# Altium integrated library NSC Analog.IntLib: 143 symbols (part 3 of 4)
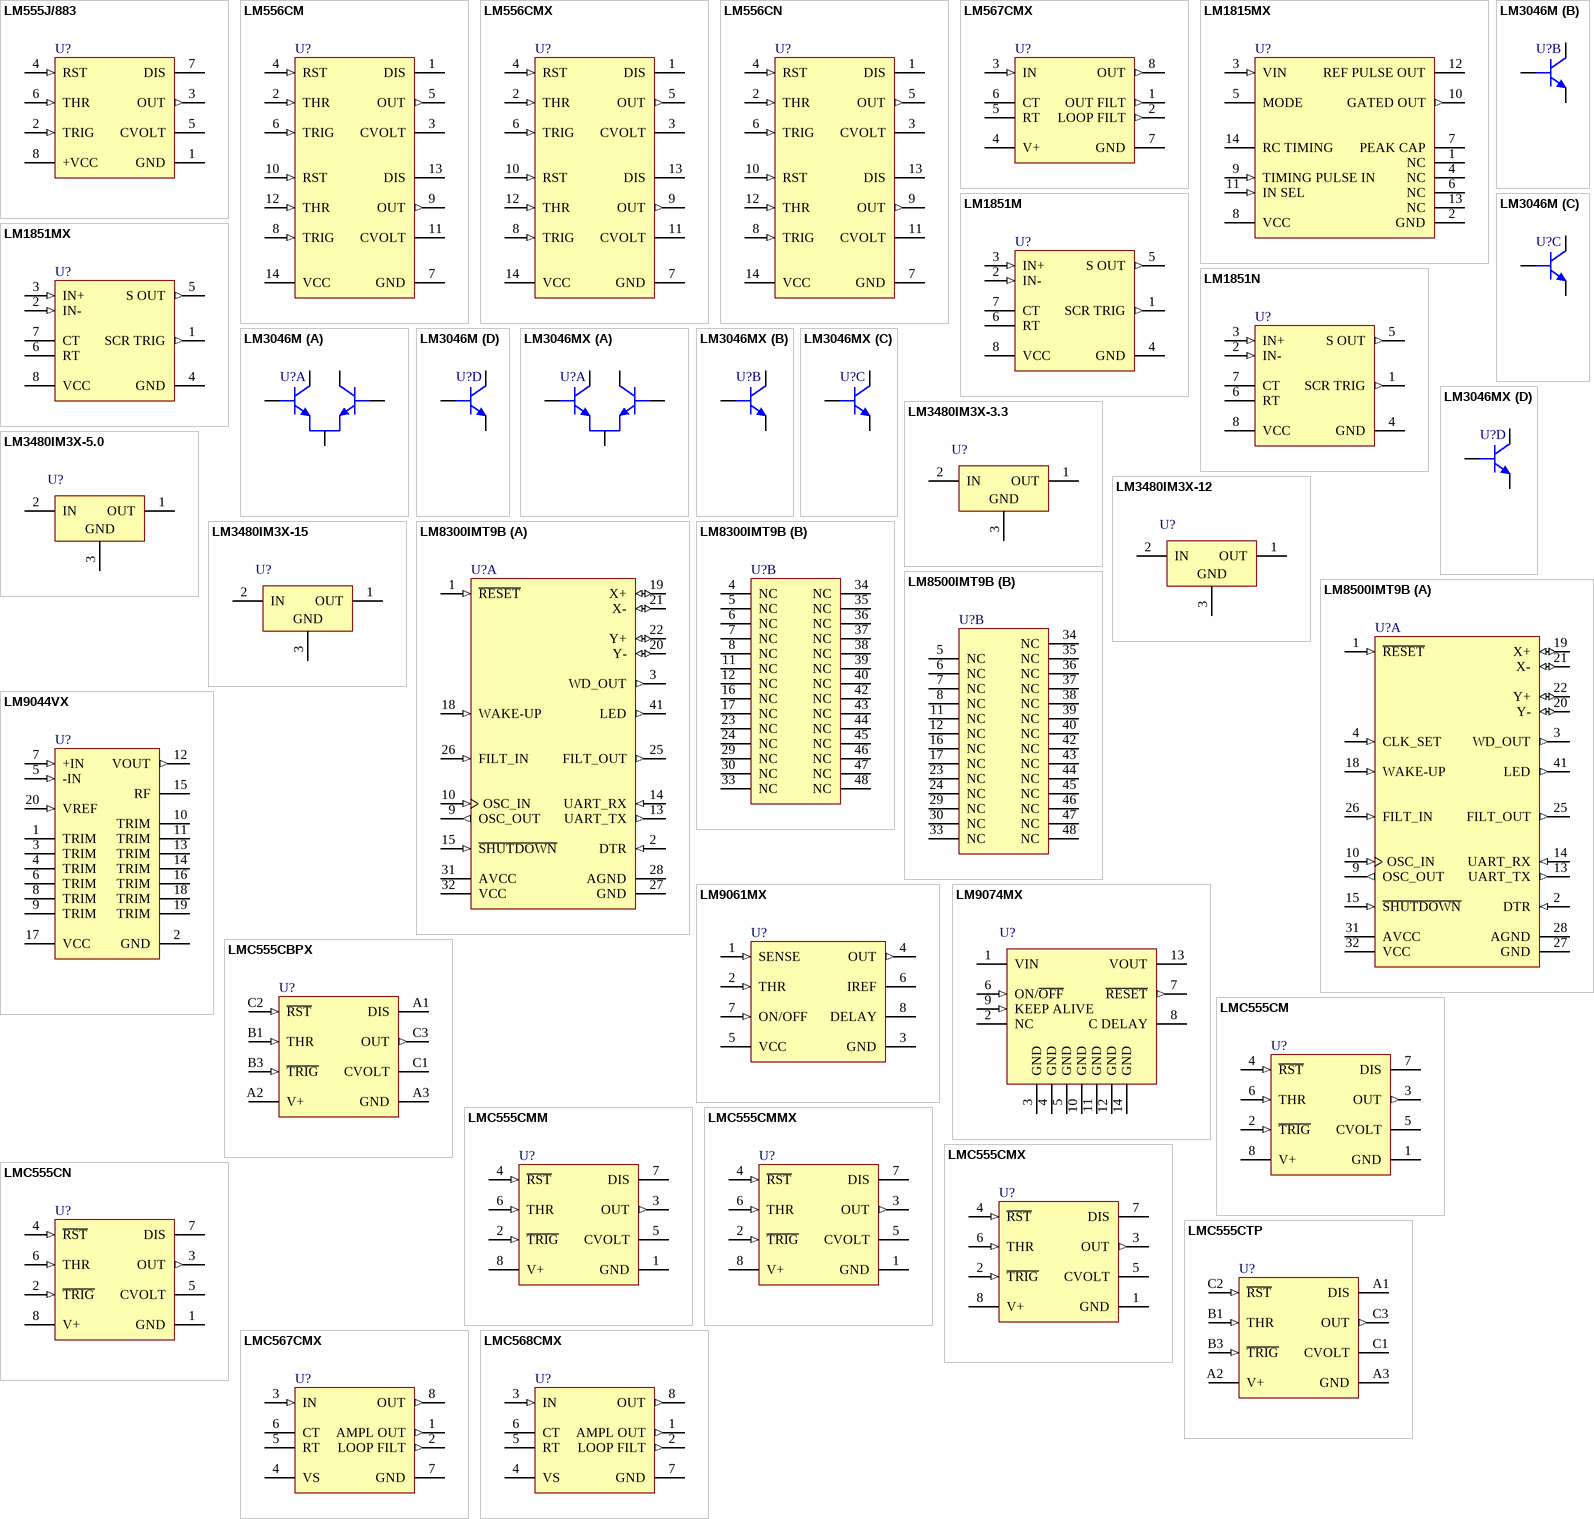
[diagram p9: symbols LM555J/883 to LMC568CMX]

## LM3480IM3X-3.3
designator U?
100 mA, SOT-23, Quasi Low-Dropout Linear Voltage Regulator; PartNumber: LM3480IM3X-3.3; Manufacturer: National Semiconductor; CompType: Analog IC; PackageTopMarking: L0A*XTT; Published: 4-Dec-2008; DatasheetVersion: Mar-2005; PackageVersion: revB, Mar-2003; PackageReference: MF03A; Publisher: Altium Limited; PackageDescription: Molded SOT-23, .115 x .051 x .037in Body, 3 Lead, .075 in Pitch; PinCount: 3; DigiKeyPartNumber: LM3480IM3-3.3CT-ND; ComponentLink1Description: LM3480 Datasheet; ComponentLink1URL: http://www.national.com/ds.cgi/LM/LM3480.pdf; ComponentLink2Description: LM3480 Web Page; ComponentLink2URL: http://www.national.com/pf/LM/LM3480.html; ComponentLink3Description: MF03A package page; ComponentLink3URL: http://www.national.com/packaging/folders/mf03a.html
footprint MF03A_N (SOT23, 3-Leads, Body 2.9x1.3mm, Pitch 0.95mm, Lead Span 2.4mm, IPC Medium Density)
footprint MF03A_L (SOT23, 3-Leads, Body 2.9x1.3mm, Pitch 0.95mm, Lead Span 2.4mm, IPC High Density)
footprint MF03A_M (SOT23, 3-Leads, Body 2.9x1.3mm, Pitch 0.95mm, Lead Span 2.4mm, IPC Low Density)
pins: 1 OUT (power), 2 IN (power), 3 GND (power)

## LM3480IM3X-5.0
designator U?
100 mA, SOT-23, Quasi Low-Dropout Linear Voltage Regulator; PartNumber: LM3480IM3X-5.0; Manufacturer: National Semiconductor; CompType: Analog IC; PackageTopMarking: L0B*XTT; Published: 4-Dec-2008; DatasheetVersion: Mar-2005; PackageVersion: revB, Mar-2003; PackageReference: MF03A; Publisher: Altium Limited; PackageDescription: Molded SOT-23, .115 x .051 x .037in Body, 3 Lead, .075 in Pitch; PinCount: 3; DigiKeyPartNumber: LM3480IM3-5.0CT-ND; ComponentLink1Description: LM3480 Datasheet; ComponentLink1URL: http://www.national.com/ds.cgi/LM/LM3480.pdf; ComponentLink2Description: LM3480 Web Page; ComponentLink2URL: http://www.national.com/pf/LM/LM3480.html; ComponentLink3Description: MF03A package page; ComponentLink3URL: http://www.national.com/packaging/folders/mf03a.html
footprint MF03A_N (SOT23, 3-Leads, Body 2.9x1.3mm, Pitch 0.95mm, Lead Span 2.4mm, IPC Medium Density)
footprint MF03A_L (SOT23, 3-Leads, Body 2.9x1.3mm, Pitch 0.95mm, Lead Span 2.4mm, IPC High Density)
footprint MF03A_M (SOT23, 3-Leads, Body 2.9x1.3mm, Pitch 0.95mm, Lead Span 2.4mm, IPC Low Density)
pins: 1 OUT (power), 2 IN (power), 3 GND (power)

## LM3480IM3X-12
designator U?
100 mA, SOT-23, Quasi Low-Dropout Linear Voltage Regulator; PartNumber: LM3480IM3X-12; Manufacturer: National Semiconductor; CompType: Analog IC; PackageTopMarking: L0C*XTT; Published: 4-Dec-2008; DatasheetVersion: Mar-2005; PackageVersion: revB, Mar-2003; PackageReference: MF03A; Publisher: Altium Limited; PackageDescription: Molded SOT-23, .115 x .051 x .037in Body, 3 Lead, .075 in Pitch; PinCount: 3; DigiKeyPartNumber: LM3480IM3X-12CT-ND; ComponentLink1Description: LM3480 Datasheet; ComponentLink1URL: http://www.national.com/ds.cgi/LM/LM3480.pdf; ComponentLink2Description: LM3480 Web Page; ComponentLink2URL: http://www.national.com/pf/LM/LM3480.html; ComponentLink3Description: MF03A package page; ComponentLink3URL: http://www.national.com/packaging/folders/mf03a.html
footprint MF03A_N (SOT23, 3-Leads, Body 2.9x1.3mm, Pitch 0.95mm, Lead Span 2.4mm, IPC Medium Density)
footprint MF03A_L (SOT23, 3-Leads, Body 2.9x1.3mm, Pitch 0.95mm, Lead Span 2.4mm, IPC High Density)
footprint MF03A_M (SOT23, 3-Leads, Body 2.9x1.3mm, Pitch 0.95mm, Lead Span 2.4mm, IPC Low Density)
pins: 1 OUT (power), 2 IN (power), 3 GND (power)

## LM3480IM3X-15
designator U?
100 mA, SOT-23, Quasi Low-Dropout Linear Voltage Regulator; PartNumber: LM3480IM3X-15; Manufacturer: National Semiconductor; CompType: Analog IC; PackageTopMarking: L0D*XTT; Published: 4-Dec-2008; DatasheetVersion: Mar-2005; PackageVersion: revB, Mar-2003; PackageReference: MF03A; Publisher: Altium Limited; PackageDescription: Molded SOT-23, .115 x .051 x .037in Body, 3 Lead, .075 in Pitch; PinCount: 3; DigiKeyPartNumber: LM3480IM3-15CT-ND; ComponentLink1Description: LM3480 Datasheet; ComponentLink1URL: http://www.national.com/ds.cgi/LM/LM3480.pdf; ComponentLink2Description: LM3480 Web Page; ComponentLink2URL: http://www.national.com/pf/LM/LM3480.html; ComponentLink3Description: MF03A package page; ComponentLink3URL: http://www.national.com/packaging/folders/mf03a.html
footprint MF03A_N (SOT23, 3-Leads, Body 2.9x1.3mm, Pitch 0.95mm, Lead Span 2.4mm, IPC Medium Density)
footprint MF03A_L (SOT23, 3-Leads, Body 2.9x1.3mm, Pitch 0.95mm, Lead Span 2.4mm, IPC High Density)
footprint MF03A_M (SOT23, 3-Leads, Body 2.9x1.3mm, Pitch 0.95mm, Lead Span 2.4mm, IPC Low Density)
pins: 1 OUT (power), 2 IN (power), 3 GND (power)

## LM8300IMT9B
designator U?
Four Wire Resistive Touchscreen Controller with Brownout; PartNumber: LM8300IMT9B; Manufacturer: National Semiconductor; CompType: Analog IC; PackageTopMarking: NS2ZXYTT*LM8300IMT9; PowerWise: N; Published: 4-Dec-2008; DatasheetVersion: Dec-2003; PackageVersion: revE, Apr-2003; PackageReference: MTD48; Publisher: Altium Limited; PackageDescription: Molded TSSOP, Jedec, 12.5 x 6.1 x 0.9mm Body, 48 Lead, 0.50mm Pitch; PinCount: 48; DigiKeyPartNumber: LM8300IMT9B-ND; Code_JEDEC: MO-153-ED; ComponentLink1Description: LM8300 Datasheet; ComponentLink1URL: http://www.national.com/ds.cgi/LM/LM8300.pdf; ComponentLink2Description: LM8300 Web Page; ComponentLink2URL: http://www.national.com/pf/LM/LM8300.html; ComponentLink3Description: MTD48 package page; ComponentLink3URL: http://www.national.com/packaging/folders/mtd48.html
footprint MTD48_N (TSSOP, 48-Leads, Body 12.5x6.1mm, Pitch 0.5mm, IPC Medium Density)
footprint MTD48_L (TSSOP, 48-Leads, Body 12.5x6.1mm, Pitch 0.5mm, IPC High Density)
footprint MTD48_M (TSSOP, 48-Leads, Body 12.5x6.1mm, Pitch 0.5mm, IPC Low Density)
part A pins: 1 ~{RESET} (in), 2 DTR (in), 3 WD_OUT (out), 9 OSC_OUT (out), 10 OSC_IN (in), 13 UART_TX (out), 14 UART_RX (in), 15 ~{SHUTDOWN} (in), 18 WAKE-UP (in), 19 X+ (io), 20 Y- (io), 21 X- (io), 22 Y+ (io), 25 FILT_OUT (out), 26 FILT_IN (in), 27 GND (power), 28 AGND (power), 31 AVCC (power), 32 VCC (power), 41 LED (out)
part B pins: 4 NC, 5 NC, 6 NC, 7 NC, 8 NC, 11 NC, 12 NC, 16 NC, 17 NC, 23 NC, 24 NC, 29 NC, 30 NC, 33 NC, 34 NC, 35 NC, 36 NC, 37 NC, 38 NC, 39 NC, 40 NC, 42 NC, 43 NC, 44 NC, 45 NC, 46 NC, 47 NC, 48 NC

## LM8500IMT9B
designator U?
Four Wire Resistive Touchscreen Controller with Brownout; PartNumber: LM8500IMT9B; Manufacturer: National Semiconductor; CompType: Analog IC; PackageTopMarking: NS2ZXYTT*LM8500IMT9; PowerWise: N; Published: 4-Dec-2008; DatasheetVersion: Dec-2003; PackageVersion: revE, Apr-2003; PackageReference: MTD48; Publisher: Altium Limited; PackageDescription: Molded TSSOP, Jedec, 12.5 x 6.1 x 0.9mm Body, 48 Lead, 0.50mm Pitch; PinCount: 48; DigiKeyPartNumber: LM8500IMT9B-ND; Code_JEDEC: MO-153-ED; ComponentLink1Description: LM8500 Datasheet; ComponentLink1URL: http://www.national.com/ds.cgi/LM/LM8500.pdf; ComponentLink2Description: LM8500 Web Page; ComponentLink2URL: http://www.national.com/pf/LM/LM8500.html; ComponentLink3Description: MTD48 package page; ComponentLink3URL: http://www.national.com/packaging/folders/mtd48.html
footprint MTD48_N (TSSOP, 48-Leads, Body 12.5x6.1mm, Pitch 0.5mm, IPC Medium Density)
footprint MTD48_L (TSSOP, 48-Leads, Body 12.5x6.1mm, Pitch 0.5mm, IPC High Density)
footprint MTD48_M (TSSOP, 48-Leads, Body 12.5x6.1mm, Pitch 0.5mm, IPC Low Density)
part A pins: 1 ~{RESET} (in), 2 DTR (in), 3 WD_OUT (out), 4 CLK_SET (in), 9 OSC_OUT (out), 10 OSC_IN (in), 13 UART_TX (out), 14 UART_RX (in), 15 ~{SHUTDOWN} (in), 18 WAKE-UP (in), 19 X+ (io), 20 Y- (io), 21 X- (io), 22 Y+ (io), 25 FILT_OUT (out), 26 FILT_IN (in), 27 GND (power), 28 AGND (power), 31 AVCC (power), 32 VCC (power), 41 LED (out)
part B pins: 5 NC, 6 NC, 7 NC, 8 NC, 11 NC, 12 NC, 16 NC, 17 NC, 23 NC, 24 NC, 29 NC, 30 NC, 33 NC, 34 NC, 35 NC, 36 NC, 37 NC, 38 NC, 39 NC, 40 NC, 42 NC, 43 NC, 44 NC, 45 NC, 46 NC, 47 NC, 48 NC

## LM9044VX
designator U?
Lambda Sensor Interface Amplifier; PartNumber: LM9044VX; Manufacturer: National Semiconductor; CompType: Analog IC; PackageTopMarking: NSUZXYTT*LM9044V; Published: 4-Dec-2008; DatasheetVersion: Nov-2001; PackageVersion: revL, Dec-1993; PackageReference: V20A; Publisher: Altium Limited; PackageDescription: Plastic Chip Carrier, Sq., .050in Pitch, 20 Lead; PinCount: 20; DigiKeyPartNumber: LM9044VX-ND; Code_JEDEC: MO-047-AA; Code_IPC: PLCC-20; ComponentLink1Description: LM9044 Datasheet; ComponentLink1URL: http://www.national.com/ds.cgi/LM/LM9044.pdf; ComponentLink2Description: LM9044 Web Page; ComponentLink2URL: http://www.national.com/pf/LM/LM9044.html; ComponentLink3Description: V20A package page; ComponentLink3URL: http://www.national.com/packaging/folders/v20a.html
footprint V20A_N (Leaded Chip Carrier, 20-Leads, Body 9x9mm, Pitch 1.27mm, IPC Medium Density)
footprint V20A_L (Leaded Chip Carrier, 20-Leads, Body 9x9mm, Pitch 1.27mm, IPC High Density)
footprint V20A_M (Leaded Chip Carrier, 20-Leads, Body 9x9mm, Pitch 1.27mm, IPC Low Density)
pins: 1 TRIM, 2 GND (power), 3 TRIM, 4 TRIM, 5 -IN (in), 6 TRIM, 7 +IN (in), 8 TRIM, 9 TRIM, 10 TRIM, 11 TRIM, 12 VOUT (out), 13 TRIM, 14 TRIM, 15 RF, 16 TRIM, 17 VCC (power), 18 TRIM, 19 TRIM, 20 VREF (in)

## LM9061MX
designator U?
Power MOSFET Driver with Lossless Protection; PartNumber: LM9061MX; Manufacturer: National Semiconductor; CompType: Analog IC; PackageTopMarking: NSZXTT*LM90*61M; Published: 4-Dec-2008; DatasheetVersion: Aug-2006; PackageVersion: revL, Sep-2006; PackageReference: M08A; Publisher: Altium Limited; PackageDescription: SOIC Narrow, 4.9 x 3.9 x 1.45mm, 8 Lead, 1.27mm Pitch; PinCount: 8; DigiKeyPartNumber: LM9061MX-ND; Code_JEDEC: MS-012-AA; Code_IPC: SOIC127P600-8; ComponentLink1Description: LM9061 Datasheet; ComponentLink1URL: http://www.national.com/ds.cgi/LM/LM9061.pdf; ComponentLink2Description: LM9061 Web Page; ComponentLink2URL: http://www.national.com/pf/LM/LM9061.html; ComponentLink3Description: M08A package page; ComponentLink3URL: http://www.national.com/packaging/folders/m08a.html
footprint M08A_N (SOIC, 8-Leads, Body 4.9x3.9mm, Pitch 1.27mm, IPC Medium Density)
footprint M08A_L (SOIC, 8-Leads, Body 4.9x3.9mm, Pitch 1.27mm, IPC High Density)
footprint M08A_M (SOIC, 8-Leads, Body 4.9x3.9mm, Pitch 1.27mm, IPC Low Density)
pins: 1 SENSE (in), 2 THR (in), 3 GND (power), 4 OUT (out), 5 VCC (power), 6 IREF, 7 ON/OFF (in), 8 DELAY

## LM9074MX
designator U?
System Voltage Regulator with Keep-Alive ON/OFF Control; PartNumber: LM9074MX; Manufacturer: National Semiconductor; CompType: Analog IC; PackageTopMarking: NSUZXYTT*LM9074M; Published: 4-Dec-2008; DatasheetVersion: Nov-2005; PackageVersion: revJ, Jan-1996; PackageReference: M14A; Publisher: Altium Limited; PackageDescription: Molded Package S.O., .150in Wide, 14 Lead; PinCount: 14; DigiKeyPartNumber: LM9074MX-ND; Code_JEDEC: MS-012AB; Code_IPC: SOIC127P600-14; ComponentLink1Description: LM9074 Datasheet; ComponentLink1URL: http://www.national.com/ds.cgi/LM/LM9074.pdf; ComponentLink2Description: LM9074 Web Page; ComponentLink2URL: http://www.national.com/pf/LM/LM9074.html; ComponentLink3Description: M14A package page; ComponentLink3URL: http://www.national.com/packaging/folders/m14a.html
footprint M14A_N (SOIC, 14-Leads, Body 8.6x3.9mm, Pitch 1.27mm, IPC Medium Density)
footprint M14A_L (SOIC, 14-Leads, Body 8.6x3.9mm, Pitch 1.27mm, IPC High Density)
footprint M14A_M (SOIC, 14-Leads, Body 8.6x3.9mm, Pitch 1.27mm, IPC Low Density)
pins: 1 VIN (power), 2 NC, 3 GND (power), 4 GND (power), 5 GND (power), 6 ON/~{OFF} (in), 7 ~{RESET} (out), 8 C DELAY, 9 KEEP ALIVE (in), 10 GND (power), 11 GND (power), 12 GND (power), 13 VOUT (power), 14 GND (power)

## LMC555CBPX
designator U?
CMOS Timer; PartNumber: LMC555CBPX; Manufacturer: National Semiconductor; CompType: Analog IC; PackageTopMarking: XVF*I 1; Published: 4-Dec-2008; DatasheetVersion: May-2006; PackageVersion: revC, Feb-2002; PackageReference: BPA08EFB; Publisher: Altium Limited; PackageDescription: Micro SMD, 8 Bump, 0.5mm Pitch; PinCount: 8; DigiKeyPartNumber: LMC555CBPX-ND; Code_JEDEC: MO-211-BC; ComponentLink1Description: LMC555 Datasheet; ComponentLink1URL: http://www.national.com/ds.cgi/LM/LMC555.pdf; ComponentLink2Description: LMC555 Web Page; ComponentLink2URL: http://www.national.com/pf/LM/LMC555.html; ComponentLink3Description: BPA08EFB package page; ComponentLink3URL: http://www.national.com/packaging/folders/bpa08efb.html
footprint BPA08EFB (Micro SMD, 8-Leads, Body 1.41x1.39mm, Pitch 0.5mm, NSC Recommended)
pins: A1 DIS (oc), A2 V+ (power), A3 GND (power), B1 THR (in), B3 ~{TRIG} (in), C1 CVOLT, C2 ~{RST} (in), C3 OUT (out)

## LMC555CM
designator U?
CMOS Timer; PartNumber: LMC555CM; Manufacturer: National Semiconductor; CompType: Analog IC; PackageTopMarking: NSZXTT*LMC*555CM; PowerWise: N; Published: 4-Dec-2008; DatasheetVersion: May-2006; PackageVersion: revL, Sep-2006; PackageReference: M08A; Publisher: Altium Limited; PackageDescription: SOIC Narrow, 4.9 x 3.9 x 1.45mm, 8 Lead, 1.27mm Pitch; PinCount: 8; DigiKeyPartNumber: LMC555CM-ND; Code_JEDEC: MS-012-AA; Code_IPC: SOIC127P600-8; ComponentLink1Description: LMC555 Datasheet; ComponentLink1URL: http://www.national.com/ds.cgi/LM/LMC555.pdf; ComponentLink2Description: LMC555 Web Page; ComponentLink2URL: http://www.national.com/pf/LM/LMC555.html; ComponentLink3Description: M08A package page; ComponentLink3URL: http://www.national.com/packaging/folders/m08a.html
footprint M08A_N (SOIC, 8-Leads, Body 4.9x3.9mm, Pitch 1.27mm, IPC Medium Density)
footprint M08A_L (SOIC, 8-Leads, Body 4.9x3.9mm, Pitch 1.27mm, IPC High Density)
footprint M08A_M (SOIC, 8-Leads, Body 4.9x3.9mm, Pitch 1.27mm, IPC Low Density)
pins: 1 GND (power), 2 ~{TRIG} (in), 3 OUT (out), 4 ~{RST} (in), 5 CVOLT, 6 THR (in), 7 DIS (oc), 8 V+ (power)

## LMC555CMM
designator U?
CMOS Timer; PartNumber: LMC555CMM; Manufacturer: National Semiconductor; CompType: Analog IC; PackageTopMarking: ZXTT*ZC5; PowerWise: N; Published: 4-Dec-2008; DatasheetVersion: May-2006; PackageVersion: revF, Apr-2008; PackageReference: MUA08A; Publisher: Altium Limited; PackageDescription: MINI SOIC, .118 x .118 x .034in, 8 Lead, .0256in Pitch; PinCount: 8; DigiKeyPartNumber: LMC555CMMCT-ND; Code_JEDEC: MO-187-AA; ComponentLink1Description: LMC555 Datasheet; ComponentLink1URL: http://www.national.com/ds.cgi/LM/LMC555.pdf; ComponentLink2Description: LMC555 Web Page; ComponentLink2URL: http://www.national.com/pf/LM/LMC555.html; ComponentLink3Description: MUA08A package page; ComponentLink3URL: http://www.national.com/packaging/folders/mua08a.html
footprint MUA08A_N (TSOP, 8-Leads, Body 3x3mm, Pitch 0.65mm, IPC Medium Density)
footprint MUA08A_L (TSOP, 8-Leads, Body 3x3mm, Pitch 0.65mm, IPC High Density)
footprint MUA08A_M (TSOP, 8-Leads, Body 3x3mm, Pitch 0.65mm, IPC Low Density)
pins: 1 GND (power), 2 ~{TRIG} (in), 3 OUT (out), 4 ~{RST} (in), 5 CVOLT, 6 THR (in), 7 DIS (oc), 8 V+ (power)

## LMC555CMMX
designator U?
CMOS Timer; PartNumber: LMC555CMMX; Manufacturer: National Semiconductor; CompType: Analog IC; PackageTopMarking: ZXTT*ZC5; Published: 4-Dec-2008; DatasheetVersion: May-2006; PackageVersion: revF, Apr-2008; PackageReference: MUA08A; Publisher: Altium Limited; PackageDescription: MINI SOIC, .118 x .118 x .034in, 8 Lead, .0256in Pitch; PinCount: 8; DigiKeyPartNumber: LMC555CMMX-ND; Code_JEDEC: MO-187-AA; ComponentLink1Description: LMC555 Datasheet; ComponentLink1URL: http://www.national.com/ds.cgi/LM/LMC555.pdf; ComponentLink2Description: LMC555 Web Page; ComponentLink2URL: http://www.national.com/pf/LM/LMC555.html; ComponentLink3Description: MUA08A package page; ComponentLink3URL: http://www.national.com/packaging/folders/mua08a.html
footprint MUA08A_N (TSOP, 8-Leads, Body 3x3mm, Pitch 0.65mm, IPC Medium Density)
footprint MUA08A_L (TSOP, 8-Leads, Body 3x3mm, Pitch 0.65mm, IPC High Density)
footprint MUA08A_M (TSOP, 8-Leads, Body 3x3mm, Pitch 0.65mm, IPC Low Density)
pins: 1 GND (power), 2 ~{TRIG} (in), 3 OUT (out), 4 ~{RST} (in), 5 CVOLT, 6 THR (in), 7 DIS (oc), 8 V+ (power)

## LMC555CMX
designator U?
CMOS Timer; PartNumber: LMC555CMX; Manufacturer: National Semiconductor; CompType: Analog IC; PackageTopMarking: NSZXTT*LMC*555CM; Published: 4-Dec-2008; DatasheetVersion: May-2006; PackageVersion: revL, Sep-2006; PackageReference: M08A; Publisher: Altium Limited; PackageDescription: SOIC Narrow, 4.9 x 3.9 x 1.45mm, 8 Lead, 1.27mm Pitch; PinCount: 8; DigiKeyPartNumber: LMC555CMXCT-ND; Code_JEDEC: MS-012-AA; Code_IPC: SOIC127P600-8; ComponentLink1Description: LMC555 Datasheet; ComponentLink1URL: http://www.national.com/ds.cgi/LM/LMC555.pdf; ComponentLink2Description: LMC555 Web Page; ComponentLink2URL: http://www.national.com/pf/LM/LMC555.html; ComponentLink3Description: M08A package page; ComponentLink3URL: http://www.national.com/packaging/folders/m08a.html
footprint M08A_N (SOIC, 8-Leads, Body 4.9x3.9mm, Pitch 1.27mm, IPC Medium Density)
footprint M08A_L (SOIC, 8-Leads, Body 4.9x3.9mm, Pitch 1.27mm, IPC High Density)
footprint M08A_M (SOIC, 8-Leads, Body 4.9x3.9mm, Pitch 1.27mm, IPC Low Density)
pins: 1 GND (power), 2 ~{TRIG} (in), 3 OUT (out), 4 ~{RST} (in), 5 CVOLT, 6 THR (in), 7 DIS (oc), 8 V+ (power)

## LMC555CN
designator U?
CMOS Timer; PartNumber: LMC555CN; Manufacturer: National Semiconductor; CompType: Analog IC; PackageTopMarking: NSUZXYTT*LMC*555CN; PowerWise: N; Published: 4-Dec-2008; DatasheetVersion: May-2006; PackageVersion: revG, May-2006; PackageReference: N08E; Publisher: Altium Limited; PackageDescription: MDIP, .365 x .250 x .130in, 8 Lead, .100in Pitch; PinCount: 8; DigiKeyPartNumber: LMC555CN-ND; Code_JEDEC: MS-001-BA; ComponentLink1Description: LMC555 Datasheet; ComponentLink1URL: http://www.national.com/ds.cgi/LM/LMC555.pdf; ComponentLink2Description: LMC555 Web Page; ComponentLink2URL: http://www.national.com/pf/LM/LMC555.html; ComponentLink3Description: N08E package page; ComponentLink3URL: http://www.national.com/packaging/folders/n08e.html
footprint N08E (DIP, 8-Leads, Row Spacing 7.62mm, Pitch 2.54mm, Body 9.91x6.35mm)
pins: 1 GND (power), 2 ~{TRIG} (in), 3 OUT (out), 4 ~{RST} (in), 5 CVOLT, 6 THR (in), 7 DIS (oc), 8 V+ (power)

## LMC555CTP
designator U?
CMOS Timer; PartNumber: LMC555CTP; Manufacturer: National Semiconductor; CompType: Analog IC; PackageTopMarking: XVF*I 02; PowerWise: N; Published: 29-May-2009; DatasheetVersion: May-2006; PackageVersion: revA, Mar-2002; PackageReference: TPA08FGA; Publisher: Altium Limited; PackageDescription: Thin Micro SMD, 8 Bump, 0.5mm Pitch; RoHS: Y; PinCount: 8; DigiKeyPartNumber: LMC555CTP-ND; Code_JEDEC: MO-211-BC; ComponentLink1Description: LMC555 Datasheet; ComponentLink1URL: http://www.national.com/ds/LM/LMC555.pdf; ComponentLink2Description: LMC555 Web Page; ComponentLink2URL: http://www.national.com/pf/LM/LMC555.html; ComponentLink3Description: TPA08FGA Package Page; ComponentLink3URL: http://www.national.com/packaging/folders/tpa08fga.html
footprint TPA08FGA (Micro SMD, 8-Leads, Body 1.44x1.41mm, Pitch 0.5mm, NSC Recommended)
pins: A1 DIS (oc), A2 V+ (power), A3 GND (power), B1 THR (in), B3 ~{TRIG} (in), C1 CVOLT, C2 ~{RST} (in), C3 OUT (out)

## LMC567CMX
designator U?
Low Power Tone Decoder; PartNumber: LMC567CMX; Manufacturer: National Semiconductor; CompType: Analog IC; PackageTopMarking: NSZXTT*LMC*567CM; Published: 4-Dec-2008; DatasheetVersion: Jun-1999; PackageVersion: revL, Sep-2006; PackageReference: M08A; Publisher: Altium Limited; PackageDescription: SOIC Narrow, 4.9 x 3.9 x 1.45mm, 8 Lead, 1.27mm Pitch; PinCount: 8; DigiKeyPartNumber: LMC567CMXTR-ND; Code_JEDEC: MS-012-AA; Code_IPC: SOIC127P600-8; ComponentLink1Description: LMC567 Datasheet; ComponentLink1URL: http://www.national.com/ds.cgi/LM/LMC567.pdf; ComponentLink2Description: LMC567 Web Page; ComponentLink2URL: http://www.national.com/pf/LM/LMC567.html; ComponentLink3Description: M08A package page; ComponentLink3URL: http://www.national.com/packaging/folders/m08a.html
footprint M08A_N (SOIC, 8-Leads, Body 4.9x3.9mm, Pitch 1.27mm, IPC Medium Density)
footprint M08A_L (SOIC, 8-Leads, Body 4.9x3.9mm, Pitch 1.27mm, IPC High Density)
footprint M08A_M (SOIC, 8-Leads, Body 4.9x3.9mm, Pitch 1.27mm, IPC Low Density)
pins: 1 AMPL OUT (out), 2 LOOP FILT (out), 3 IN (in), 4 VS (power), 5 RT, 6 CT, 7 GND (power), 8 OUT (out)

## LMC568CMX
designator U?
Low Power Phase-Locked Loop; PartNumber: LMC568CMX; Manufacturer: National Semiconductor; CompType: Analog IC; PackageTopMarking: NSZXTT*LMC*568CM; Published: 4-Dec-2008; DatasheetVersion: May-1999; PackageVersion: revL, Sep-2006; PackageReference: M08A; Publisher: Altium Limited; PackageDescription: SOIC Narrow, 4.9 x 3.9 x 1.45mm, 8 Lead, 1.27mm Pitch; PinCount: 8; DigiKeyPartNumber: LMC568CMX-ND; Code_JEDEC: MS-012-AA; Code_IPC: SOIC127P600-8; ComponentLink1Description: LMC568 Datasheet; ComponentLink1URL: http://www.national.com/ds.cgi/LM/LMC568.pdf; ComponentLink2Description: LMC568 Web Page; ComponentLink2URL: http://www.national.com/pf/LM/LMC568.html; ComponentLink3Description: M08A package page; ComponentLink3URL: http://www.national.com/packaging/folders/m08a.html
footprint M08A_N (SOIC, 8-Leads, Body 4.9x3.9mm, Pitch 1.27mm, IPC Medium Density)
footprint M08A_L (SOIC, 8-Leads, Body 4.9x3.9mm, Pitch 1.27mm, IPC High Density)
footprint M08A_M (SOIC, 8-Leads, Body 4.9x3.9mm, Pitch 1.27mm, IPC Low Density)
pins: 1 AMPL OUT (out), 2 LOOP FILT (out), 3 IN (in), 4 VS (power), 5 RT, 6 CT, 7 GND (power), 8 OUT (out)

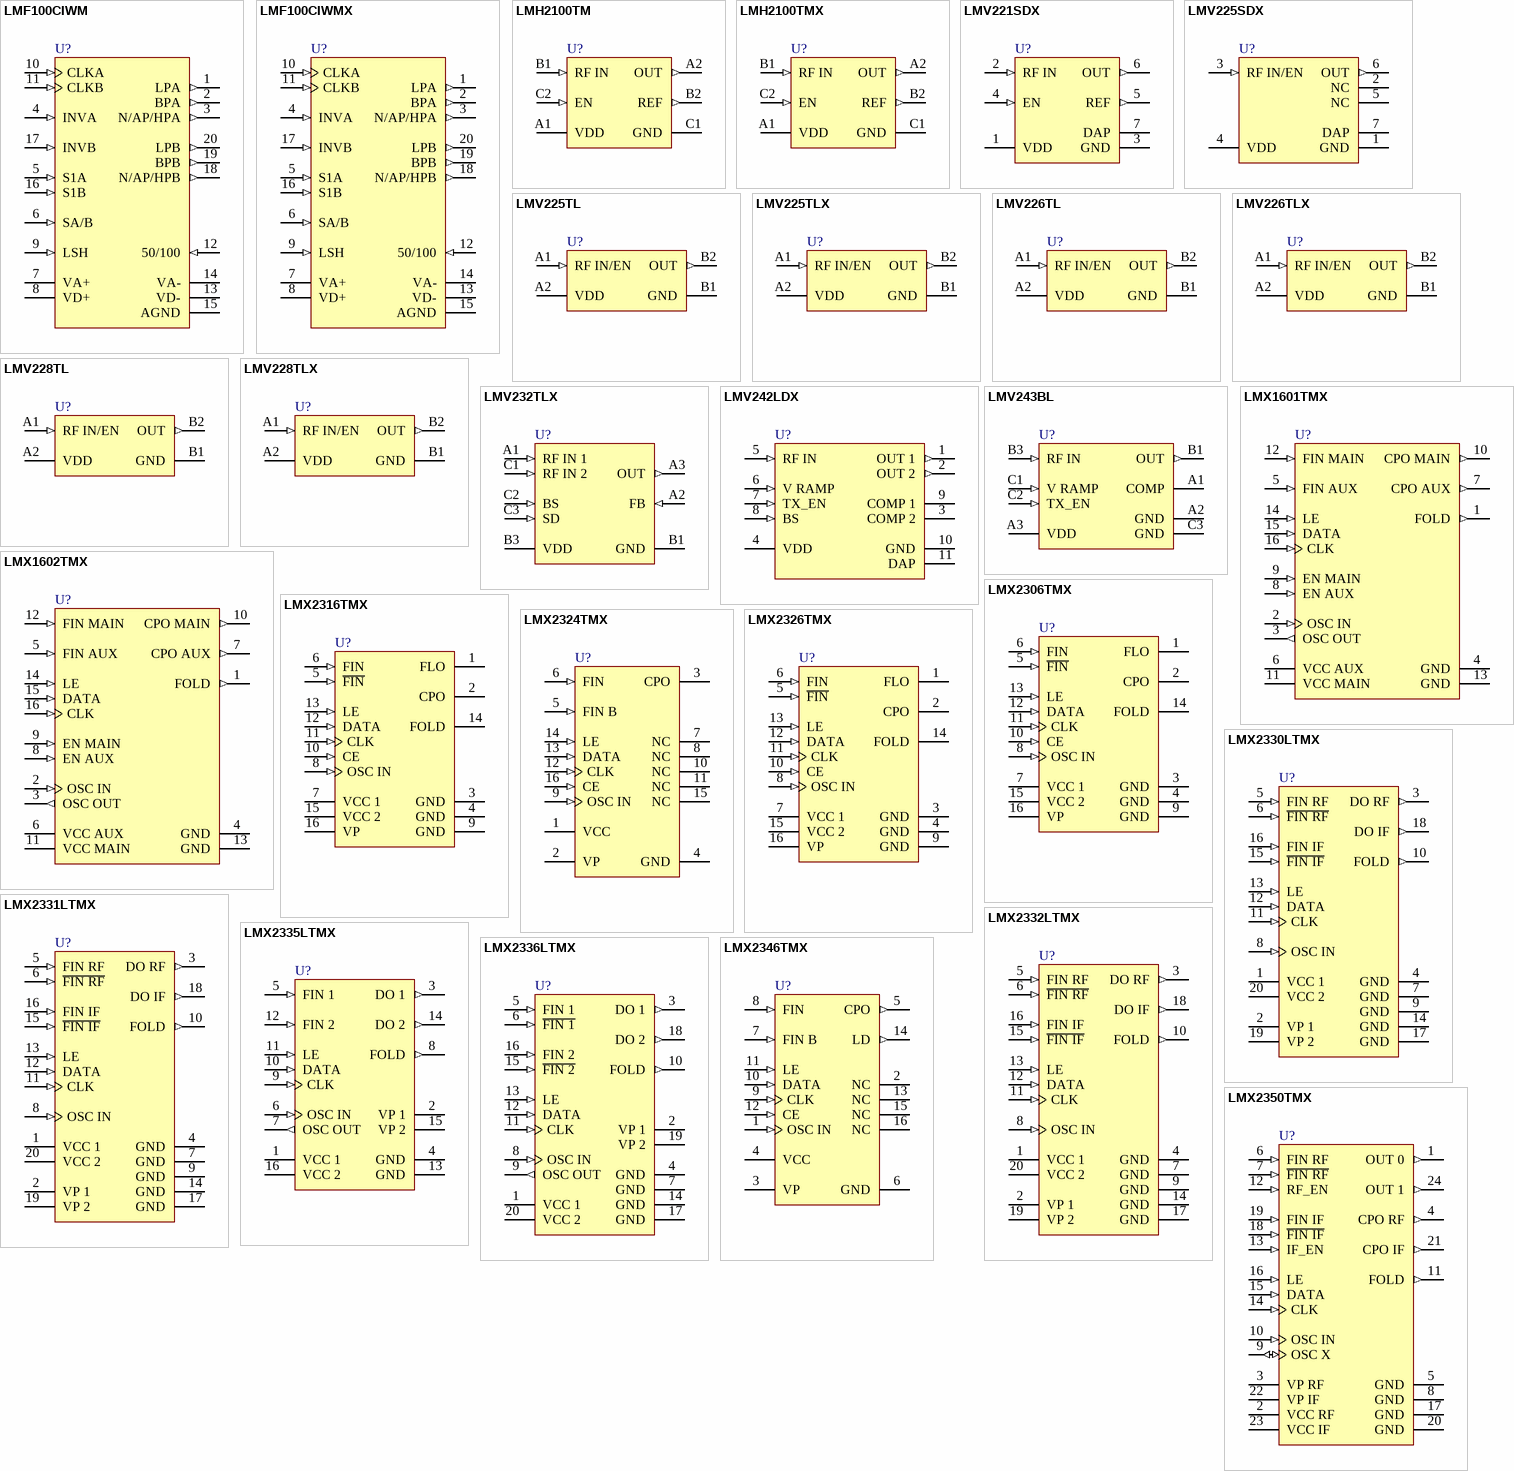
[diagram p5: symbols LMF100CIWM to LMX2350TMX]

## LMF100CIWM
designator U?
High Performance Dual Switched Capacitor Filter; PartNumber: LMF100CIWM; Manufacturer: National Semiconductor; CompType: Analog IC; PackageTopMarking: NSUZXYTT*LMF100*CIWM; PowerWise: N; Published: 4-Dec-2008; DatasheetVersion: Jul-1999; PackageVersion: revG, Jan-1996; PackageReference: M20B; Publisher: Altium Limited; PackageDescription: Molded Package, S0, .300in Wide, 20 Lead; PinCount: 20; DigiKeyPartNumber: LMF100CIWM-ND; Code_JEDEC: MS-013-AC; Code_IPC: SOIC127P1030-20; ComponentLink1Description: LMF100 Datasheet; ComponentLink1URL: http://www.national.com/ds.cgi/LM/LMF100.pdf; ComponentLink2Description: LMF100 Web Page; ComponentLink2URL: http://www.national.com/pf/LM/LMF100.html; ComponentLink3Description: M20B package page; ComponentLink3URL: http://www.national.com/packaging/folders/m20b.html
footprint M20B_N (SOIC, 20-Leads, Body 12.8x7.5mm, Pitch 1.27mm, IPC Medium Density)
footprint M20B_L (SOIC, 20-Leads, Body 12.8x7.5mm, Pitch 1.27mm, IPC High Density)
footprint M20B_M (SOIC, 20-Leads, Body 12.8x7.5mm, Pitch 1.27mm, IPC Low Density)
pins: 1 LPA (out), 2 BPA (out), 3 N/AP/HPA (out), 4 INVA (in), 5 S1A (in), 6 SA/B (in), 7 VA+ (power), 8 VD+ (power), 9 LSH (in), 10 CLKA (in), 11 CLKB (in), 12 50/100 (in), 13 VD- (power), 14 VA- (power), 15 AGND (power), 16 S1B (in), 17 INVB (in), 18 N/AP/HPB (out), 19 BPB (out), 20 LPB (out)

## LMF100CIWMX
designator U?
High Performance Dual Switched Capacitor Filter; PartNumber: LMF100CIWMX; Manufacturer: National Semiconductor; CompType: Analog IC; PackageTopMarking: NSUZXYTT*LMF100*CIWM; Published: 4-Dec-2008; DatasheetVersion: Jul-1999; PackageVersion: revG, Jan-1996; PackageReference: M20B; Publisher: Altium Limited; PackageDescription: Molded Package, S0, .300in Wide, 20 Lead; PinCount: 20; DigiKeyPartNumber: LMF100CIWMX-ND; Code_JEDEC: MS-013-AC; Code_IPC: SOIC127P1030-20; ComponentLink1Description: LMF100 Datasheet; ComponentLink1URL: http://www.national.com/ds.cgi/LM/LMF100.pdf; ComponentLink2Description: LMF100 Web Page; ComponentLink2URL: http://www.national.com/pf/LM/LMF100.html; ComponentLink3Description: M20B package page; ComponentLink3URL: http://www.national.com/packaging/folders/m20b.html
footprint M20B_N (SOIC, 20-Leads, Body 12.8x7.5mm, Pitch 1.27mm, IPC Medium Density)
footprint M20B_L (SOIC, 20-Leads, Body 12.8x7.5mm, Pitch 1.27mm, IPC High Density)
footprint M20B_M (SOIC, 20-Leads, Body 12.8x7.5mm, Pitch 1.27mm, IPC Low Density)
pins: 1 LPA (out), 2 BPA (out), 3 N/AP/HPA (out), 4 INVA (in), 5 S1A (in), 6 SA/B (in), 7 VA+ (power), 8 VD+ (power), 9 LSH (in), 10 CLKA (in), 11 CLKB (in), 12 50/100 (in), 13 VD- (power), 14 VA- (power), 15 AGND (power), 16 S1B (in), 17 INVB (in), 18 N/AP/HPB (out), 19 BPB (out), 20 LPB (out)

## LMH2100TM
designator U?
50 MHz to 4 GHz 40 dB Logarithmic Power Detector for CDMA and WCDMA; PartNumber: LMH2100TM; Manufacturer: National Semiconductor; CompType: Analog IC; PackageTopMarking: XV*I J; Published: 4-Dec-2008; DatasheetVersion: Mar-2008; PackageVersion: revB; PackageReference: TMD06BBA; Publisher: Altium Limited; PackageDescription: Thin Micro SMD, 6 Bump, 0.4mm Pitch; PinCount: 6; DigiKeyPartNumber: LMH2100TMCT-ND; ComponentLink1Description: LMH2100 Datasheet; ComponentLink1URL: http://www.national.com/ds.cgi/LM/LMH2100.pdf; ComponentLink2Description: LMH2100 Web Page; ComponentLink2URL: http://www.national.com/pf/LM/LMH2100.html
footprint TMD06BBA (Micro SMD, 6-Leads, Body 1.24x0.84mm, Pitch 0.4mm, NSC Recommended)
pins: A1 VDD (power), A2 OUT (out), B1 RF IN (in), B2 REF (out), C1 GND (power), C2 EN (in)

## LMH2100TMX
designator U?
50 MHz to 4 GHz 40 dB Logarithmic Power Detector for CDMA and WCDMA; PartNumber: LMH2100TMX; Manufacturer: National Semiconductor; CompType: Analog IC; PackageTopMarking: XV*I J; Published: 4-Dec-2008; DatasheetVersion: Mar-2008; PackageVersion: revB; PackageReference: TMD06BBA; Publisher: Altium Limited; PackageDescription: Thin Micro SMD, 6 Bump, 0.4mm Pitch; PinCount: 6; DigiKeyPartNumber: LMH2100TMX-ND; ComponentLink1Description: LMH2100 Datasheet; ComponentLink1URL: http://www.national.com/ds.cgi/LM/LMH2100.pdf; ComponentLink2Description: LMH2100 Web Page; ComponentLink2URL: http://www.national.com/pf/LM/LMH2100.html
footprint TMD06BBA (Micro SMD, 6-Leads, Body 1.24x0.84mm, Pitch 0.4mm, NSC Recommended)
pins: A1 VDD (power), A2 OUT (out), B1 RF IN (in), B2 REF (out), C1 GND (power), C2 EN (in)

## LMV221SDX
designator U?
50 MHz to 3.5 GHz 40 dB Logarithmic Power Detector for CDMA and WCDMA; PartNumber: LMV221SDX; Manufacturer: National Semiconductor; CompType: Analog IC; PackageTopMarking: XTT*A96; Published: 4-Dec-2008; DatasheetVersion: Mar-2008; PackageVersion: revA, Nov-2003; PackageReference: SDB06A; Publisher: Altium Limited; PackageDescription: LLP, Plastic, Dual, 2.2 x 2.5 x 0.8mm Body, 6 Lead, 0.65mm Pitch, No Pullback; PinCount: 6; DigiKeyPartNumber: LMV221SDX-ND; ComponentLink1Description: LMV221 Datasheet; ComponentLink1URL: http://www.national.com/ds.cgi/LM/LMV221.pdf; ComponentLink2Description: LMV221 Web Page; ComponentLink2URL: http://www.national.com/pf/LM/LMV221.html; ComponentLink3Description: SDB06A package page; ComponentLink3URL: http://www.national.com/packaging/folders/sdb06a.html
footprint SDB06A (SON, 6-Leads, Body 2.2x2.5mm, Pitch 0.65mm, NSC Recommended (SC-70 Land))
pins: 1 VDD (power), 2 RF IN (in), 3 GND (power), 4 EN (in), 5 REF (out), 6 OUT (out), 7 DAP (power)

## LMV225SDX
designator U?
RF Power Detector for CDMA and WCDMA; PartNumber: LMV225SDX; Manufacturer: National Semiconductor; CompType: Analog IC; PackageTopMarking: XTT*A90; Published: 4-Dec-2008; DatasheetVersion: Oct-2006; PackageVersion: revA, Nov-2003; PackageReference: SDB06A; Publisher: Altium Limited; PackageDescription: LLP, Plastic, Dual, 2.2 x 2.5 x 0.8mm Body, 6 Lead, 0.65mm Pitch, No Pullback; PinCount: 6; DigiKeyPartNumber: LMV225SDX-ND; ComponentLink1Description: LMV225 Datasheet; ComponentLink1URL: http://www.national.com/ds.cgi/LM/LMV225.pdf; ComponentLink2Description: LMV225 Web Page; ComponentLink2URL: http://www.national.com/pf/LM/LMV225.html; ComponentLink3Description: SDB06A package page; ComponentLink3URL: http://www.national.com/packaging/folders/sdb06a.html
footprint SDB06A (SON, 6-Leads, Body 2.2x2.5mm, Pitch 0.65mm, NSC Recommended (SC-70 Land))
pins: 1 GND (power), 2 NC, 3 RF IN/EN (in), 4 VDD (power), 5 NC, 6 OUT (out), 7 DAP (power)

## LMV225TL
designator U?
PartNumber: LMV225TL; Manufacturer: National Semiconductor; CompType: Analog IC; PackageTopMarking: X*I; Published: 4-Dec-2008; DatasheetVersion: Oct-2006; PackageVersion: revD, Mar-2005; PackageReference: TLA04AAA; Publisher: Altium Limited; PackageDescription: Thin Micro SMD, 4 Bump (Large), 0.5mm Pitch; PinCount: 4; DigiKeyPartNumber: LMV225TLCT-ND; Code_JEDEC: MO-211-BA; ComponentLink1Description: LMV225 Datasheet; ComponentLink1URL: http://www.national.com/ds.cgi/LM/LMV225.pdf; ComponentLink2Description: LMV225 Web Page; ComponentLink2URL: http://www.national.com/pf/LM/LMV225.html; ComponentLink3Description: TLA04AAA package page; ComponentLink3URL: http://www.national.com/packaging/folders/tla04aaa.html
footprint TLA04AAA (Micro SMD, 4-Leads, Body 1.01x1.01mm, Pitch 0.5mm, NSC Recommended)
pins: A1 RF IN/EN (in), A2 VDD (power), B1 GND (power), B2 OUT (out)

## LMV225TLX
designator U?
RF Power Detector for CDMA and WCDMA; PartNumber: LMV225TLX; Manufacturer: National Semiconductor; CompType: Analog IC; PackageTopMarking: X*I; Published: 4-Dec-2008; DatasheetVersion: Oct-2006; PackageVersion: revD, Mar-2005; PackageReference: TLA04AAA; Publisher: Altium Limited; PackageDescription: Thin Micro SMD, 4 Bump (Large), 0.5mm Pitch; PinCount: 4; DigiKeyPartNumber: LMV225TLX-ND; Code_JEDEC: MO-211-BA; ComponentLink1Description: LMV225 Datasheet; ComponentLink1URL: http://www.national.com/ds.cgi/LM/LMV225.pdf; ComponentLink2Description: LMV225 Web Page; ComponentLink2URL: http://www.national.com/pf/LM/LMV225.html; ComponentLink3Description: TLA04AAA package page; ComponentLink3URL: http://www.national.com/packaging/folders/tla04aaa.html
footprint TLA04AAA (Micro SMD, 4-Leads, Body 1.01x1.01mm, Pitch 0.5mm, NSC Recommended)
pins: A1 RF IN/EN (in), A2 VDD (power), B1 GND (power), B2 OUT (out)

## LMV226TL
designator U?
RF Power Detector for CDMA and WCDMA; PartNumber: LMV226TL; Manufacturer: National Semiconductor; CompType: Analog IC; PackageTopMarking: X*I; Published: 4-Dec-2008; DatasheetVersion: Oct-2006; PackageVersion: revD, Mar-2005; PackageReference: TLA04AAA; Publisher: Altium Limited; PackageDescription: Thin Micro SMD, 4 Bump (Large), 0.5mm Pitch; PinCount: 4; DigiKeyPartNumber: LMV226TLCT-ND; Code_JEDEC: MO-211-BA; ComponentLink1Description: LMV226 Datasheet; ComponentLink1URL: http://www.national.com/ds.cgi/LM/LMV226.pdf; ComponentLink2Description: LMV226 Web Page; ComponentLink2URL: http://www.national.com/pf/LM/LMV226.html; ComponentLink3Description: TLA04AAA package page; ComponentLink3URL: http://www.national.com/packaging/folders/tla04aaa.html
footprint TLA04AAA (Micro SMD, 4-Leads, Body 1.01x1.01mm, Pitch 0.5mm, NSC Recommended)
pins: A1 RF IN/EN (in), A2 VDD (power), B1 GND (power), B2 OUT (out)

## LMV226TLX
designator U?
RF Power Detector for CDMA and WCDMA; PartNumber: LMV226TLX; Manufacturer: National Semiconductor; CompType: Analog IC; PackageTopMarking: X*I; Published: 4-Dec-2008; DatasheetVersion: Oct-2006; PackageVersion: revD, Mar-2005; PackageReference: TLA04AAA; Publisher: Altium Limited; PackageDescription: Thin Micro SMD, 4 Bump (Large), 0.5mm Pitch; PinCount: 4; DigiKeyPartNumber: LMV226TLX-ND; Code_JEDEC: MO-211-BA; ComponentLink1Description: LMV226 Datasheet; ComponentLink1URL: http://www.national.com/ds.cgi/LM/LMV226.pdf; ComponentLink2Description: LMV226 Web Page; ComponentLink2URL: http://www.national.com/pf/LM/LMV226.html; ComponentLink3Description: TLA04AAA package page; ComponentLink3URL: http://www.national.com/packaging/folders/tla04aaa.html
footprint TLA04AAA (Micro SMD, 4-Leads, Body 1.01x1.01mm, Pitch 0.5mm, NSC Recommended)
pins: A1 RF IN/EN (in), A2 VDD (power), B1 GND (power), B2 OUT (out)

## LMV228TL
designator U?
RF Power Detector for CDMA and WCDMA; PartNumber: LMV228TL; Manufacturer: National Semiconductor; CompType: Analog IC; PackageTopMarking: X*I; Published: 4-Dec-2008; DatasheetVersion: Oct-2006; PackageVersion: revD, Mar-2005; PackageReference: TLA04AAA; Publisher: Altium Limited; PackageDescription: Thin Micro SMD, 4 Bump (Large), 0.5mm Pitch; PinCount: 4; DigiKeyPartNumber: LMV228TLCT-ND; Code_JEDEC: MO-211-BA; ComponentLink1Description: LMV228 Datasheet; ComponentLink1URL: http://www.national.com/ds.cgi/LM/LMV228.pdf; ComponentLink2Description: LMV228 Web Page; ComponentLink2URL: http://www.national.com/pf/LM/LMV228.html; ComponentLink3Description: TLA04AAA package page; ComponentLink3URL: http://www.national.com/packaging/folders/tla04aaa.html
footprint TLA04AAA (Micro SMD, 4-Leads, Body 1.01x1.01mm, Pitch 0.5mm, NSC Recommended)
pins: A1 RF IN/EN (in), A2 VDD (power), B1 GND (power), B2 OUT (out)

## LMV228TLX
designator U?
RF Power Detector for CDMA and WCDMA; PartNumber: LMV228TLX; Manufacturer: National Semiconductor; CompType: Analog IC; PackageTopMarking: X*I; Published: 4-Dec-2008; DatasheetVersion: Oct-2006; PackageVersion: revD, Mar-2005; PackageReference: TLA04AAA; Publisher: Altium Limited; PackageDescription: Thin Micro SMD, 4 Bump (Large), 0.5mm Pitch; PinCount: 4; DigiKeyPartNumber: LMV228TLX-ND; Code_JEDEC: MO-211-BA; ComponentLink1Description: LMV228 Datasheet; ComponentLink1URL: http://www.national.com/ds.cgi/LM/LMV228.pdf; ComponentLink2Description: LMV228 Web Page; ComponentLink2URL: http://www.national.com/pf/LM/LMV228.html; ComponentLink3Description: TLA04AAA package page; ComponentLink3URL: http://www.national.com/packaging/folders/tla04aaa.html
footprint TLA04AAA (Micro SMD, 4-Leads, Body 1.01x1.01mm, Pitch 0.5mm, NSC Recommended)
pins: A1 RF IN/EN (in), A2 VDD (power), B1 GND (power), B2 OUT (out)

## LMV232TLX
designator U?
Dual-Channel Integrated Mean Square Power Detector for CDMA & WCDMA; PartNumber: LMV232TLX; Manufacturer: National Semiconductor; CompType: Analog IC; PackageTopMarking: XVA*I 02; Published: 4-Dec-2008; DatasheetVersion: Apr-2005; PackageVersion: revC, Jan-2004; PackageReference: TLA08AAA; Publisher: Altium Limited; PackageDescription: Thin Micro SMD, 8 Bump (Large), 0.5mm Pitch; PinCount: 8; DigiKeyPartNumber: LMV232TLX-ND; ComponentLink1Description: LMV232 Datasheet; ComponentLink1URL: http://www.national.com/ds.cgi/LM/LMV232.pdf; ComponentLink2Description: LMV232 Web Page; ComponentLink2URL: http://www.national.com/pf/LM/LMV232.html; ComponentLink3Description: TLA08AAA package page; ComponentLink3URL: http://www.national.com/packaging/folders/tla08aaa.html
footprint TLA08AAA (Micro SMD, 8-Leads, Body 1.52x1.52mm, Pitch 0.5mm, NSC Recommended)
pins: A1 RF IN 1 (in), A2 FB (in), A3 OUT (out), B1 GND (power), B3 VDD (power), C1 RF IN 2 (in), C2 BS (in), C3 SD (in)

## LMV242LDX
designator U?
Dual Output, Quad-Band GSM/GPRS Power Amplifier Controller; PartNumber: LMV242LDX; Manufacturer: National Semiconductor; CompType: Analog IC; PackageTopMarking: ZXYTT*242LD; Published: 4-Dec-2008; DatasheetVersion: Jul-2004; PackageVersion: revB, Jan-2003; PackageReference: LDA10A; Publisher: Altium Limited; PackageDescription: LLP, Plastic, Dual, 3 x 3 x 0.75mm Body, 10 Lead, 0.5mm Pitch; PinCount: 10; DigiKeyPartNumber: LMV242LDX-ND; ComponentLink1Description: LMV242 Datasheet; ComponentLink1URL: http://www.national.com/ds.cgi/LM/LMV242.pdf; ComponentLink2Description: LMV242 Web Page; ComponentLink2URL: http://www.national.com/pf/LM/LMV242.html; ComponentLink3Description: LDA10A package page; ComponentLink3URL: http://www.national.com/packaging/folders/lda10a.html
footprint LDA10A (PSON, 10-Leads, Body 3x3mm, Pitch 0.5mm, NSC Recommended)
pins: 1 OUT 1 (out), 2 OUT 2 (out), 3 COMP 2, 4 VDD (power), 5 RF IN (in), 6 V RAMP (in), 7 TX_EN (in), 8 BS (in), 9 COMP 1, 10 GND (power), 11 DAP (power)

## LMV243BL
designator U?
Single-Channel, Quad-Band GSM Power Controller in micro SMD; PartNumber: LMV243BL; Manufacturer: National Semiconductor; CompType: Analog IC; PackageTopMarking: XVA*I 01; Published: 4-Dec-2008; DatasheetVersion: Feb-2004; PackageVersion: revB, Feb-2002; PackageReference: BLA08AAC; Publisher: Altium Limited; PackageDescription: Micro SMD, 8 Bump (Large), 0.5mm Pitch; PinCount: 8; DigiKeyPartNumber: LMV243BLCT-ND; Code_JEDEC: MO-211-BC; ComponentLink1Description: LMV243 Datasheet; ComponentLink1URL: http://www.national.com/ds.cgi/LM/LMV243.pdf; ComponentLink2Description: LMV243 Web Page; ComponentLink2URL: http://www.national.com/pf/LM/LMV243.html; ComponentLink3Description: BLA08AAC package page; ComponentLink3URL: http://www.national.com/packaging/folders/bla08aac.html
footprint BLA08AAC (Micro SMD, 8-Leads, Body 1.51x1.51mm, Pitch 0.5mm, NSC Recommended)
pins: A1 COMP, A2 GND (power), A3 VDD (power), B1 OUT (out), B3 RF IN (in), C1 V RAMP (in), C2 TX_EN (in), C3 GND (power)

## LMX1601TMX
designator U?
1.1 GHz/500 MHz PLLatinum Low Cost Dual Frequency Synthesizer; PartNumber: LMX1601TMX; Manufacturer: National Semiconductor; CompType: Analog IC; PackageTopMarking: NSUZXYTT*LMX1601*TMDD; Published: 4-Dec-2008; DatasheetVersion: Jun-2005; PackageVersion: revD, Jun-2003; PackageReference: MTC16; Publisher: Altium Limited; PackageDescription: Molded TSSOP, Jedec, 5 x 4.4 x 0.9mm Body, 16 Lead, 0.65mm Pitch; PinCount: 16; DigiKeyPartNumber: LMX1601TMXCT-ND; Code_JEDEC: MO-153-AB; ComponentLink1Description: LMX1601 Datasheet; ComponentLink1URL: http://www.national.com/ds.cgi/LM/LMX1601.pdf; ComponentLink2Description: LMX1601 Web Page; ComponentLink2URL: http://www.national.com/pf/LM/LMX1601.html; ComponentLink3Description: MTC16 package page; ComponentLink3URL: http://www.national.com/packaging/folders/mtc16.html
footprint MTC16_N (TSOP, 16-Leads, Body 5x4.4mm, Pitch 0.65mm, IPC Medium Density)
footprint MTC16_L (TSOP, 16-Leads, Body 5x4.4mm, Pitch 0.65mm, IPC High Density)
footprint MTC16_M (TSOP, 16-Leads, Body 5x4.4mm, Pitch 0.65mm, IPC Low Density)
pins: 1 FOLD (out), 2 OSC IN (in), 3 OSC OUT (out), 4 GND (power), 5 FIN AUX (in), 6 VCC AUX (power), 7 CPO AUX (out), 8 EN AUX (in), 9 EN MAIN (in), 10 CPO MAIN (out), 11 VCC MAIN (power), 12 FIN MAIN (in), 13 GND (power), 14 LE (in), 15 DATA (in), 16 CLK (in)

## LMX1602TMX
designator U?
1.1 GHz/1.1 GHz PLLatinum Low Cost Dual Frequency Synthesizer; PartNumber: LMX1602TMX; Manufacturer: National Semiconductor; CompType: Analog IC; PackageTopMarking: NSUZXYTT*LMX1602*TMDD; Published: 4-Dec-2008; DatasheetVersion: Jun-2005; PackageVersion: revD, Jun-2003; PackageReference: MTC16; Publisher: Altium Limited; PackageDescription: Molded TSSOP, Jedec, 5 x 4.4 x 0.9mm Body, 16 Lead, 0.65mm Pitch; PinCount: 16; DigiKeyPartNumber: LMX1602TMX-ND; Code_JEDEC: MO-153-AB; ComponentLink1Description: LMX1602 Datasheet; ComponentLink1URL: http://www.national.com/ds.cgi/LM/LMX1602.pdf; ComponentLink2Description: LMX1602 Web Page; ComponentLink2URL: http://www.national.com/pf/LM/LMX1602.html; ComponentLink3Description: MTC16 package page; ComponentLink3URL: http://www.national.com/packaging/folders/mtc16.html
footprint MTC16_N (TSOP, 16-Leads, Body 5x4.4mm, Pitch 0.65mm, IPC Medium Density)
footprint MTC16_L (TSOP, 16-Leads, Body 5x4.4mm, Pitch 0.65mm, IPC High Density)
footprint MTC16_M (TSOP, 16-Leads, Body 5x4.4mm, Pitch 0.65mm, IPC Low Density)
pins: 1 FOLD (out), 2 OSC IN (in), 3 OSC OUT (out), 4 GND (power), 5 FIN AUX (in), 6 VCC AUX (power), 7 CPO AUX (out), 8 EN AUX (in), 9 EN MAIN (in), 10 CPO MAIN (out), 11 VCC MAIN (power), 12 FIN MAIN (in), 13 GND (power), 14 LE (in), 15 DATA (in), 16 CLK (in)

## LMX2306TMX
designator U?
550 MHz PLLatinum Low Power Frequency Synthesizer for RF Personal Communications; PartNumber: LMX2306TMX; Manufacturer: National Semiconductor; CompType: Analog IC; PackageTopMarking: NSUZXYTT*LMX2306*TMDD; Published: 4-Dec-2008; DatasheetVersion: Mar-2004; PackageVersion: revD, Jun-2003; PackageReference: MTC16; Publisher: Altium Limited; PackageDescription: Molded TSSOP, Jedec, 5 x 4.4 x 0.9mm Body, 16 Lead, 0.65mm Pitch; PinCount: 16; DigiKeyPartNumber: LMX2306TMXTR-ND; Code_JEDEC: MO-153-AB; ComponentLink1Description: LMX2306 Datasheet; ComponentLink1URL: http://www.national.com/ds.cgi/LM/LMX2306.pdf; ComponentLink2Description: LMX2306 Web Page; ComponentLink2URL: http://www.national.com/pf/LM/LMX2306.html; ComponentLink3Description: MTC16 package page; ComponentLink3URL: http://www.national.com/packaging/folders/mtc16.html
footprint MTC16_N (TSOP, 16-Leads, Body 5x4.4mm, Pitch 0.65mm, IPC Medium Density)
footprint MTC16_L (TSOP, 16-Leads, Body 5x4.4mm, Pitch 0.65mm, IPC High Density)
footprint MTC16_M (TSOP, 16-Leads, Body 5x4.4mm, Pitch 0.65mm, IPC Low Density)
pins: 1 FLO (hiz), 2 CPO (hiz), 3 GND (power), 4 GND (power), 5 ~{FIN} (in), 6 FIN (in), 7 VCC 1 (power), 8 OSC IN (in), 9 GND (power), 10 CE (in), 11 CLK (in), 12 DATA (in), 13 LE (in), 14 FOLD (hiz), 15 VCC 2 (power), 16 VP (power)

## LMX2316TMX
designator U?
1.2 GHz PLLatinum Low Power Frequency Synthesizer for RF Personal Communications; PartNumber: LMX2316TMX; Manufacturer: National Semiconductor; CompType: Analog IC; PackageTopMarking: NSUZXYTT*LMX2316*TMDD; Published: 4-Dec-2008; DatasheetVersion: Mar-2004; PackageVersion: revD, Jun-2003; PackageReference: MTC16; Publisher: Altium Limited; PackageDescription: Molded TSSOP, Jedec, 5 x 4.4 x 0.9mm Body, 16 Lead, 0.65mm Pitch; PinCount: 16; DigiKeyPartNumber: LMX2316TMX-ND; Code_JEDEC: MO-153-AB; ComponentLink1Description: LMX2316 Datasheet; ComponentLink1URL: http://www.national.com/ds.cgi/LM/LMX2316.pdf; ComponentLink2Description: LMX2316 Web Page; ComponentLink2URL: http://www.national.com/pf/LM/LMX2316.html; ComponentLink3Description: MTC16 package page; ComponentLink3URL: http://www.national.com/packaging/folders/mtc16.html
footprint MTC16_N (TSOP, 16-Leads, Body 5x4.4mm, Pitch 0.65mm, IPC Medium Density)
footprint MTC16_L (TSOP, 16-Leads, Body 5x4.4mm, Pitch 0.65mm, IPC High Density)
footprint MTC16_M (TSOP, 16-Leads, Body 5x4.4mm, Pitch 0.65mm, IPC Low Density)
pins: 1 FLO (hiz), 2 CPO (hiz), 3 GND (power), 4 GND (power), 5 ~{FIN} (in), 6 FIN (in), 7 VCC 1 (power), 8 OSC IN (in), 9 GND (power), 10 CE (in), 11 CLK (in), 12 DATA (in), 13 LE (in), 14 FOLD (hiz), 15 VCC 2 (power), 16 VP (power)

## LMX2324TMX
designator U?
PLLatinum 2.0 GHz Frequency Synthesizer for RF Personal Communications; PartNumber: LMX2324TMX; Manufacturer: National Semiconductor; CompType: Analog IC; PackageTopMarking: NSUZXYTT*LMX2324*TMDD; Published: 4-Dec-2008; DatasheetVersion: Mar-2001; PackageVersion: revD, Jun-2003; PackageReference: MTC16; Publisher: Altium Limited; PackageDescription: Molded TSSOP, Jedec, 5 x 4.4 x 0.9mm Body, 16 Lead, 0.65mm Pitch; PinCount: 16; DigiKeyPartNumber: LMX2324TMX-ND; Code_JEDEC: MO-153-AB; ComponentLink1Description: LMX2324 Datasheet; ComponentLink1URL: http://www.national.com/ds.cgi/LM/LMX2324.pdf; ComponentLink2Description: LMX2324 Web Page; ComponentLink2URL: http://www.national.com/pf/LM/LMX2324.html; ComponentLink3Description: MTC16 package page; ComponentLink3URL: http://www.national.com/packaging/folders/mtc16.html
footprint MTC16_N (TSOP, 16-Leads, Body 5x4.4mm, Pitch 0.65mm, IPC Medium Density)
footprint MTC16_L (TSOP, 16-Leads, Body 5x4.4mm, Pitch 0.65mm, IPC High Density)
footprint MTC16_M (TSOP, 16-Leads, Body 5x4.4mm, Pitch 0.65mm, IPC Low Density)
pins: 1 VCC (power), 2 VP (power), 3 CPO (hiz), 4 GND (power), 5 FIN B (in), 6 FIN (in), 7 NC, 8 NC, 9 OSC IN (in), 10 NC, 11 NC, 12 CLK (in), 13 DATA (in), 14 LE (in), 15 NC, 16 CE (in)

## LMX2326TMX
designator U?
2.8 GHz PLLatinum Low Power Frequency Synthesizer for RF Personal Communications; PartNumber: LMX2326TMX; Manufacturer: National Semiconductor; CompType: Analog IC; PackageTopMarking: NSUZXYTT*LMX2326*TMDD; Published: 4-Dec-2008; DatasheetVersion: Mar-2004; PackageVersion: revD, Jun-2003; PackageReference: MTC16; Publisher: Altium Limited; PackageDescription: Molded TSSOP, Jedec, 5 x 4.4 x 0.9mm Body, 16 Lead, 0.65mm Pitch; PinCount: 16; DigiKeyPartNumber: LMX2326TMX-ND; Code_JEDEC: MO-153-AB; ComponentLink1Description: LMX2326 Datasheet; ComponentLink1URL: http://www.national.com/ds.cgi/LM/LMX2326.pdf; ComponentLink2Description: LMX2326 Web Page; ComponentLink2URL: http://www.national.com/pf/LM/LMX2326.html; ComponentLink3Description: MTC16 package page; ComponentLink3URL: http://www.national.com/packaging/folders/mtc16.html
footprint MTC16_N (TSOP, 16-Leads, Body 5x4.4mm, Pitch 0.65mm, IPC Medium Density)
footprint MTC16_L (TSOP, 16-Leads, Body 5x4.4mm, Pitch 0.65mm, IPC High Density)
footprint MTC16_M (TSOP, 16-Leads, Body 5x4.4mm, Pitch 0.65mm, IPC Low Density)
pins: 1 FLO (hiz), 2 CPO (hiz), 3 GND (power), 4 GND (power), 5 ~{FIN} (in), 6 FIN (in), 7 VCC 1 (power), 8 OSC IN (in), 9 GND (power), 10 CE (in), 11 CLK (in), 12 DATA (in), 13 LE (in), 14 FOLD (hiz), 15 VCC 2 (power), 16 VP (power)

## LMX2330LTMX
designator U?
2.5 GHz/510 MHz PLLatinum Low Power Dual Frequency Synthesizer for RF Personal Communications; PartNumber: LMX2330LTMX; Manufacturer: National Semiconductor; CompType: Analog IC; PackageTopMarking: NSUZXYTT*LMX2330*LTMDD; Published: 4-Dec-2008; DatasheetVersion: Oct-2001; PackageVersion: revE, Mar-2003; PackageReference: MTC20; Publisher: Altium Limited; PackageDescription: Molded TSSOP, Jedec, 6.5 x 4.4 x 0.9mm Body, 20 Lead, 0.65mm Pitch; PinCount: 20; DigiKeyPartNumber: LMX2330LTMX-ND; Code_JEDEC: MO-153-AC; ComponentLink1Description: LMX2330L Datasheet; ComponentLink1URL: http://www.national.com/ds.cgi/LM/LMX2330L.pdf; ComponentLink2Description: LMX2330L Web Page; ComponentLink2URL: http://www.national.com/pf/LM/LMX2330L.html; ComponentLink3Description: MTC20 package page; ComponentLink3URL: http://www.national.com/packaging/folders/mtc20.html
footprint MTC20_N (TSOP, 20-Leads, Body 6.5x4.4mm, Pitch 0.65mm, IPC Medium Density)
footprint MTC20_L (TSOP, 20-Leads, Body 6.5x4.4mm, Pitch 0.65mm, IPC High Density)
footprint MTC20_M (TSOP, 20-Leads, Body 6.5x4.4mm, Pitch 0.65mm, IPC Low Density)
pins: 1 VCC 1 (power), 2 VP 1 (power), 3 DO RF (out), 4 GND (power), 5 FIN RF (in), 6 ~{FIN RF} (in), 7 GND (power), 8 OSC IN (in), 9 GND (power), 10 FOLD (out), 11 CLK (in), 12 DATA (in), 13 LE (in), 14 GND (power), 15 ~{FIN IF} (in), 16 FIN IF (in), 17 GND (power), 18 DO IF (out), 19 VP 2 (power), 20 VCC 2 (power)

## LMX2331LTMX
designator U?
2.0 GHz/510 MHz PLLatinum Low Power Dual Frequency Synthesizer for RF Personal Communications; PartNumber: LMX2331LTMX; Manufacturer: National Semiconductor; CompType: Analog IC; PackageTopMarking: NSUZXYTT*LMX2331*LTMDD; Published: 4-Dec-2008; DatasheetVersion: Oct-2001; PackageVersion: revE, Mar-2003; PackageReference: MTC20; Publisher: Altium Limited; PackageDescription: Molded TSSOP, Jedec, 6.5 x 4.4 x 0.9mm Body, 20 Lead, 0.65mm Pitch; PinCount: 20; DigiKeyPartNumber: LMX2331LTMX-ND; Code_JEDEC: MO-153-AC; ComponentLink1Description: LMX2331L Datasheet; ComponentLink1URL: http://www.national.com/ds.cgi/LM/LMX2331L.pdf; ComponentLink2Description: LMX2331L Web Page; ComponentLink2URL: http://www.national.com/pf/LM/LMX2331L.html; ComponentLink3Description: MTC20 package page; ComponentLink3URL: http://www.national.com/packaging/folders/mtc20.html
footprint MTC20_N (TSOP, 20-Leads, Body 6.5x4.4mm, Pitch 0.65mm, IPC Medium Density)
footprint MTC20_L (TSOP, 20-Leads, Body 6.5x4.4mm, Pitch 0.65mm, IPC High Density)
footprint MTC20_M (TSOP, 20-Leads, Body 6.5x4.4mm, Pitch 0.65mm, IPC Low Density)
pins: 1 VCC 1 (power), 2 VP 1 (power), 3 DO RF (out), 4 GND (power), 5 FIN RF (in), 6 ~{FIN RF} (in), 7 GND (power), 8 OSC IN (in), 9 GND (power), 10 FOLD (out), 11 CLK (in), 12 DATA (in), 13 LE (in), 14 GND (power), 15 ~{FIN IF} (in), 16 FIN IF (in), 17 GND (power), 18 DO IF (out), 19 VP 2 (power), 20 VCC 2 (power)

## LMX2332LTMX
designator U?
1.2 GHz/510 MHz PLLatinum Low Power Dual Frequency Synthesizer for RF Personal Communications; PartNumber: LMX2332LTMX; Manufacturer: National Semiconductor; CompType: Analog IC; PackageTopMarking: NSUZXYTT*LMX2332*LTMDD; Published: 4-Dec-2008; DatasheetVersion: Oct-2001; PackageVersion: revE, Mar-2003; PackageReference: MTC20; Publisher: Altium Limited; PackageDescription: Molded TSSOP, Jedec, 6.5 x 4.4 x 0.9mm Body, 20 Lead, 0.65mm Pitch; PinCount: 20; DigiKeyPartNumber: LMX2332LTMX-ND; Code_JEDEC: MO-153-AC; ComponentLink1Description: LMX2332L Datasheet; ComponentLink1URL: http://www.national.com/ds.cgi/LM/LMX2332L.pdf; ComponentLink2Description: LMX2332L Web Page; ComponentLink2URL: http://www.national.com/pf/LM/LMX2332L.html; ComponentLink3Description: MTC20 package page; ComponentLink3URL: http://www.national.com/packaging/folders/mtc20.html
footprint MTC20_N (TSOP, 20-Leads, Body 6.5x4.4mm, Pitch 0.65mm, IPC Medium Density)
footprint MTC20_L (TSOP, 20-Leads, Body 6.5x4.4mm, Pitch 0.65mm, IPC High Density)
footprint MTC20_M (TSOP, 20-Leads, Body 6.5x4.4mm, Pitch 0.65mm, IPC Low Density)
pins: 1 VCC 1 (power), 2 VP 1 (power), 3 DO RF (out), 4 GND (power), 5 FIN RF (in), 6 ~{FIN RF} (in), 7 GND (power), 8 OSC IN (in), 9 GND (power), 10 FOLD (out), 11 CLK (in), 12 DATA (in), 13 LE (in), 14 GND (power), 15 ~{FIN IF} (in), 16 FIN IF (in), 17 GND (power), 18 DO IF (out), 19 VP 2 (power), 20 VCC 2 (power)